# Altium footprint library MMS-120-02-F-DH.PcbLib: 1 footprints
Each footprint in its own frame and in the unit in brackets; x right, y up, seen from the top. Pads: shape width x height; smd on the part's side, far side on the other; paste and mask are expansions set on the pad; w line width, h text height; cw(c..) or ccw(c..) is an arc to the next point about the centre after c.
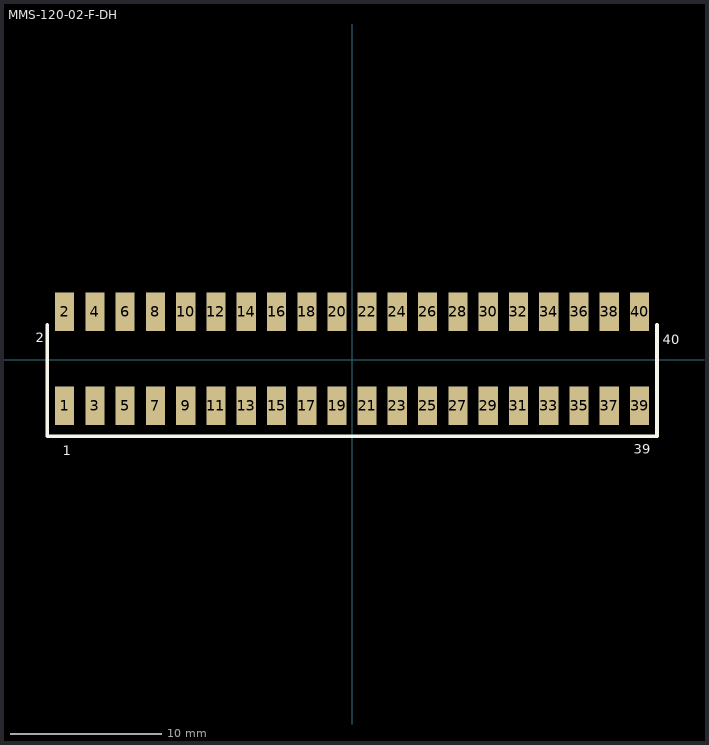
[diagram p0: the footprint, top view; thin cyan lines are the x and y axes]

## MMS-120-02-F-DH [mil]
pads (40):
  rect 50x100 smd: 1(-750,-120) 2(-750,125) 3(-671,-120) 4(-671,125) 5(-592,-120) 6(-592,125) 7(-513,-120) 8(-513,125) 9(-434,-120) 10(-434,125) 11(-355,-120) 12(-355,125) 13(-276,-120) 14(-276,125) 15(-197,-120) 16(-197,125) 17(-118,-120) 18(-118,125) 19(-39,-120) 20(-39,125) 21(39,-120) 22(39,125) 23(118,-120) 24(118,125) 25(197,-120) 26(197,125) 27(276,-120) 28(276,125) 29(355,-120) 30(355,125) 31(434,-120) 32(434,125) 33(513,-120) 34(513,125) 35(592,-120) 36(592,125) 37(671,-120) 38(671,125) 39(750,-120) 40(750,125)
TopOverlay:
  lines w10: -795,90 -795,-200 0,-200 795,-200 795,90
  text "1" at -755,-250 h25
  text "2" at -825,45 h25
  text "40" at 810,40 h25
  text "39" at 735,-245 h25
3D body: height 178.7, standoff 2.7, extent -791.85,-135 791.85,149.99